# Altium footprint library dolphi_emblab.PcbLib: 128 footprints (part 7 of 8)
Each footprint in its own frame and in the unit in brackets; x right, y up, seen from the top. Pads: shape width x height; smd on the part's side, far side on the other; paste and mask are expansions set on the pad; w line width, h text height; cw(c..) or ccw(c..) is an arc to the next point about the centre after c.
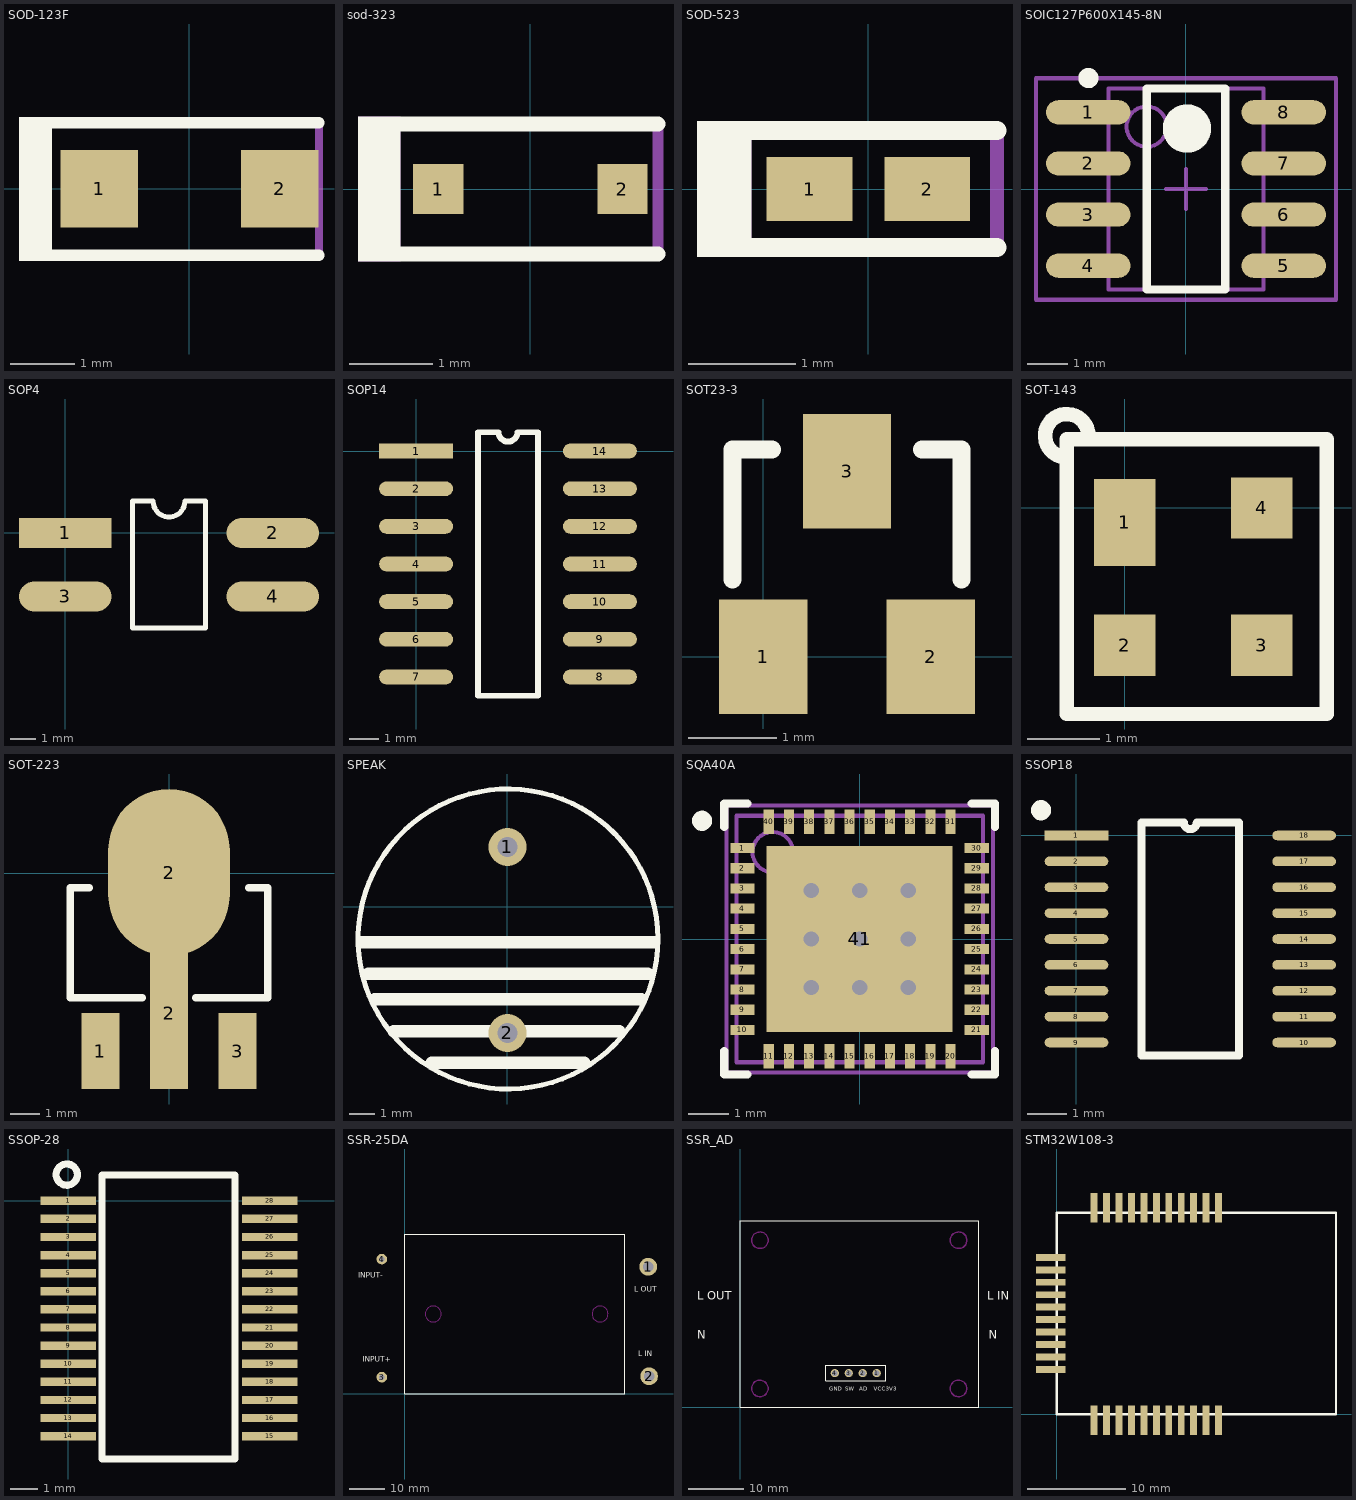
[diagram p6: the footprints below, top view; thin cyan lines are the x and y axes]

## SOD-123F [mm] "NXP recommended land pattern"
height 1.2
pads (2):
  rect 1.2x1.2 smd: 1(-1.4,0) 2(1.4,0)
Top Overlay:
  rectangle: -2.642,-1.119 -2.134,1.117
  lines w0.178: -2.311,-1.029 2.007,-1.029 ; -2.311,1.029 2.007,1.029
Mechanical 5:
  rectangle: -2.642,-1.119 -2.134,1.117
  lines w0.127: -2.311,-1.029 2.007,-1.029 2.007,1.029 -2.311,1.029
3D body: height 1.2, standoff 0, extent -1.8,-0.85 1.8,0.85

## sod-323 [mm] "NXP recommended land pattern"
height 1.1
pads (2):
  rect 0.6x0.6 smd paste-0.05: 1(-1.1,0) 2(1.1,0)
Top Overlay:
  rectangle: -2.057,-0.864 -1.549,0.864
  lines w0.178: -1.803,-0.775 0.1,-0.775 1.525,-0.775 ; -1.803,0.775 0.1,0.775 1.525,0.775
Mechanical 5:
  rectangle: -2.057,-0.864 -1.549,0.864
  lines w0.127: -1.803,-0.775 0.1,-0.775 1.525,-0.775 1.525,0.775 0.1,0.775 -1.803,0.775
  text ".Designator" at -1.4,-0.275 h0.76
3D body: height 1.1, standoff 0, extent -1.3,-0.675 1.3,0.675

## SOD-523 [mm] "NXP Semiconductor recommended land pattern, nominal STEP model"
height 0.7
pads (2):
  rect 0.8x0.6 smd: 1(-0.55,0) 2(0.55,0)
Top Overlay:
  rectangle: -1.6,-0.635 -1.092,0.635
  lines w0.178: -1.475,-0.546 0,-0.546 1.2,-0.546 ; -1.475,0.546 0,0.546 1.2,0.546
Mechanical 5:
  rectangle: -1.6,-0.635 -1.092,0.635
  lines w0.127: -1.475,-0.546 0,-0.546 1.2,-0.546 1.2,0.546 0,0.546 -1.475,0.546
3D body: height 0.72, standoff 0.02, extent -0.8,-0.399 0.8,0.399

## SOIC127P600X145-8N [mm] "SOIC, 8-Leads, Body 5.0x3.8mm (max), Pitch 1.27mm, IPC Medium Density"
height 1.45
pads (8):
  oval 2.1x0.6 smd: 1(-2.425,1.905) 2(-2.425,0.635) 3(-2.425,-0.635) 4(-2.425,-1.905) 5(2.425,-1.905) 6(2.425,-0.635) 7(2.425,0.635) 8(2.425,1.905)
Top Overlay:
  circle w0.25: c-2.425,2.755 r0.125
  circle w0.6: c0.025,1.5 r0.3
  lines w0.2: -0.975,-2.5 -0.975,2.5 0.975,2.5 0.975,-2.5 -0.975,-2.5
Mechanical 13:
  circle w0.1: c-0.975,1.55 r0.5
  lines w0.1: -1.925,-2.5 -1.925,2.5 1.925,2.5 1.925,-2.5 -1.925,-2.5
Mechanical 15:
  lines w0.1: -0.5,0 0.5,0 ; 0,-0.5 0,0.5 ; -3.725,-2.75 -3.725,2.75 3.725,2.75 3.725,-2.75 -3.725,-2.75
3D body: height 1.45, standoff 0.25, extent -1.925,-2.5 1.925,2.5

## SOP4 [mm]
pads (4):
  rect 3.7x1.2 smd: 1(0,0)
  oval 3.7x1.2 smd: 2(8.3,0) 3(0,-2.54) 4(8.3,-2.54)
Top Overlay:
  lines w0.2: 2.685,-3.81 5.615,-3.81 5.615,1.27 4.785,1.27 cw(c4.15,1.27) 3.515,1.27 2.685,1.27 2.685,-3.81

## SOP14 [mm]
pads (14):
  rect 2.5x0.5 smd: 1(0,0)
  oval 2.5x0.5 smd: 2(0,-1.27) 3(0,-2.54) 4(0,-3.81) 5(0,-5.08) 6(0,-6.35) 7(0,-7.62) 8(6.2,-7.62) 9(6.2,-6.35) 10(6.2,-5.08) 11(6.2,-3.81) 12(6.2,-2.54) 13(6.2,-1.27) 14(6.2,0)
Top Overlay:
  lines w0.2: 2.085,-8.255 2.085,0.635 2.782,0.635 ccw(c3.1,0.635) 3.417,0.635 4.115,0.635 4.115,-8.255 2.085,-8.255

## SOT23-3 [mm]
pads (3):
  rect 1x1.3 smd: 1(0,0) 2(1.9,0) 3(0.95,2.1)
Top Overlay:
  lines w0.203: -0.35,0.875 -0.35,2.35 0.1,2.35 ; 1.8,2.35 2.25,2.35 2.25,0.875

## SOT-143 [mm]
height 1.19
pads (4):
  rect 0.85x1.2 smd: 1(0,-0.2)
  rect 0.85x0.85 smd: 2(0,-1.9) 3(1.9,-1.9) 4(1.9,0)
Top Overlay:
  lines w0.2: -0.8,0.7 cw(c-0.8,1) -0.5,1 ; 0.64,0.95 1.425,0.95 ; -0.8,-2.85 -0.8,0.95 2.8,0.95 2.8,-2.85 -0.8,-2.85
3D body: height 1, standoff 0, extent -0.26,-2.41 2.16,0.51

## SOT-223 [mil]
height 270.08
pads (4):
  rect 50x100 smd: 1(-90.5,-234) 3(90.5,-234)
  rect 50x200 smd: 2(0,-184)
  oval 160x220 smd: 2(0,1)
Top Overlay:
  lines w10: -105,-19 -130,-19 -130,-164 -35,-164 ; 35,-164 130,-164 130,-19 105,-19

## SPEAK [mil]
height 62.99
pads (2):
  round 60 hole 31.5: 1(0,94.49) 2(0,-198.43)
Top Overlay:
  circle w7.87: c0.84,-50.42 r236.22
  lines w19.68: -229.16,-55.43 230.84,-55.43 ; -219.16,-105.43 220.84,-105.43 ; -209.16,-145.43 210.84,-145.43 ; -179.16,-195.43 175.84,-195.43 ; -119.16,-245.43 120.84,-245.43

## SQA40A [mm] "QFN, 40-Leads, Body 6x6mm, Pitch 0.5mm, NSC Recommended"
height 0.8
pads (41):
  rect 0.6x0.25 smd paste-0.125 mask+0.051: 1(-2.9,2.25) 2(-2.9,1.75) 3(-2.9,1.25) 4(-2.9,0.75) 5(-2.9,0.25) 6(-2.9,-0.25) 7(-2.9,-0.75) 8(-2.9,-1.25) 9(-2.9,-1.75) 10(-2.9,-2.25) 21(2.9,-2.25) 22(2.9,-1.75) 23(2.9,-1.25) 24(2.9,-0.75) 25(2.9,-0.25) 26(2.9,0.25) 27(2.9,0.75) 28(2.9,1.25) 29(2.9,1.75) 30(2.9,2.25)
  rect 0.25x0.6 smd paste-0.125 mask+0.051: 11(-2.25,-2.9) 12(-1.75,-2.9) 13(-1.25,-2.9) 14(-0.75,-2.9) 15(-0.25,-2.9) 16(0.25,-2.9) 17(0.75,-2.9) 18(1.25,-2.9) 19(1.75,-2.9) 20(2.25,-2.9) 31(2.25,2.9) 32(1.75,2.9) 33(1.25,2.9) 34(0.75,2.9) 35(0.25,2.9) 36(-0.25,2.9) 37(-0.75,2.9) 38(-1.25,2.9) 39(-1.75,2.9) 40(-2.25,2.9)
  rect 4.6x4.6 smd paste-2.3 mask+0.051: 41(0,0)
via 1.2,1.2 diameter 0.635 hole 0.381
via -1.2,1.2 diameter 0.635 hole 0.381
via 0,1.2 diameter 0.635 hole 0.381
via 1.2,-1.2 diameter 0.635 hole 0.381
via -1.2,-1.2 diameter 0.635 hole 0.381
via 0,-1.2 diameter 0.635 hole 0.381
via 0,0 diameter 0.635 hole 0.381
via -1.2,0 diameter 0.635 hole 0.381
via 1.2,0 diameter 0.635 hole 0.381
Top Overlay:
  circle w0.25: c-3.9,2.925 r0.125
  lines w0.2: -3.35,-2.775 -3.35,-3.35 -2.775,-3.35 ; -3.35,2.775 -3.35,3.35 -2.775,3.35 ; 2.775,-3.35 3.35,-3.35 3.35,-2.775 ; 2.775,3.35 3.35,3.35 3.35,2.775
Top Paste:
  region: 2.125,3.4 2.125,2.7 2.375,2.7 2.375,3.4
  region: 1.625,3.398 1.625,2.698 1.875,2.698 1.875,3.398
  region: 1.125,3.398 1.125,2.698 1.375,2.698 1.375,3.398
  region: 0.625,3.4 0.625,2.7 0.875,2.7 0.875,3.4
  region: 0.125,3.4 0.125,2.7 0.375,2.7 0.375,3.4
  region: -0.375,3.4 -0.375,2.7 -0.125,2.7 -0.125,3.4
  region: -0.873,3.4 -0.873,2.7 -0.623,2.7 -0.623,3.4
  region: -1.373,3.4 -1.373,2.7 -1.123,2.7 -1.123,3.4
  region: -1.875,3.4 -1.875,2.7 -1.625,2.7 -1.625,3.4
  region: -2.375,3.4 -2.375,2.7 -2.125,2.7 -2.125,3.4
  region: 3.4,-2.125 2.7,-2.125 2.7,-2.375 3.4,-2.375
  region: 3.4,-1.625 2.7,-1.625 2.7,-1.875 3.4,-1.875
  region: 3.4,-1.125 2.7,-1.125 2.7,-1.375 3.4,-1.375
  region: 3.4,-0.627 2.7,-0.627 2.7,-0.877 3.4,-0.877
  region: 3.4,-0.125 2.7,-0.125 2.7,-0.375 3.4,-0.375
  region: 3.4,0.375 2.7,0.375 2.7,0.125 3.4,0.125
  region: 3.4,0.875 2.7,0.875 2.7,0.625 3.4,0.625
  region: 3.4,1.375 2.7,1.375 2.7,1.125 3.4,1.125
  region: 3.398,1.875 2.698,1.875 2.698,1.625 3.398,1.625
  region: 3.4,2.375 2.7,2.375 2.7,2.125 3.4,2.125
  region: -2.125,-3.4 -2.125,-2.7 -2.375,-2.7 -2.375,-3.4
  region: -1.625,-3.4 -1.625,-2.7 -1.875,-2.7 -1.875,-3.4
  region: -1.125,-3.4 -1.125,-2.7 -1.375,-2.7 -1.375,-3.4
  region: -0.625,-3.4 -0.625,-2.7 -0.875,-2.7 -0.875,-3.4
  region: -0.125,-3.4 -0.125,-2.7 -0.375,-2.7 -0.375,-3.4
  region: 0.375,-3.4 0.375,-2.7 0.125,-2.7 0.125,-3.4
  region: 0.875,-3.4 0.875,-2.7 0.625,-2.7 0.625,-3.4
  region: 1.375,-3.4 1.375,-2.7 1.125,-2.7 1.125,-3.4
  region: 1.875,-3.4 1.875,-2.7 1.625,-2.7 1.625,-3.4
  region: 2.375,-3.4 2.375,-2.7 2.125,-2.7 2.125,-3.4
  rectangle: -3.4,-2.375 -2.7,-2.125
  rectangle: -3.4,-1.875 -2.7,-1.625
  rectangle: -3.4,-1.375 -2.7,-1.125
  rectangle: -3.4,-0.875 -2.7,-0.625
  rectangle: -3.4,-0.375 -2.7,-0.125
  rectangle: -3.4,0.125 -2.7,0.375
  rectangle: -3.4,0.625 -2.7,0.875
  rectangle: -3.4,1.125 -2.7,1.375
  rectangle: -3.4,1.625 -2.7,1.875
  rectangle: -3.4,2.125 -2.7,2.375
  rectangle: 0.1,-1.1 1.1,-0.1
  rectangle: 1.3,-2.3 2.3,-1.3
  rectangle: 1.3,-1.1 2.3,-0.1
  rectangle: 0.1,-2.3 1.1,-1.3
  region: -0.102,-0.1 -1.102,-0.1 -1.102,-1.1 -0.102,-1.1
  region: -1.3,-1.3 -2.3,-1.3 -2.3,-2.3 -1.3,-2.3
  region: -1.3,-0.1 -2.3,-0.1 -2.3,-1.1 -1.3,-1.1
  region: -0.1,-1.3 -1.1,-1.3 -1.1,-2.3 -0.1,-2.3
  region: -0.1,1.1 -1.1,1.1 -1.1,0.1 -0.1,0.1
  region: -1.3,2.3 -2.3,2.3 -2.3,1.3 -1.3,1.3
  region: -1.3,1.1 -2.3,1.1 -2.3,0.1 -1.3,0.1
  region: -0.1,2.3 -1.1,2.3 -1.1,1.3 -0.1,1.3
  rectangle: 0.1,1.3 1.1,2.3
  rectangle: 1.3,0.1 2.3,1.1
  rectangle: 1.3,1.3 2.3,2.3
  rectangle: 0.1,0.1 1.1,1.1
Mechanical 5:
  text ".Designator" at -1.524,-0.508 h1.02
Mechanical 13:
  circle w0.1: c-2.15,2.15 r0.5
  lines w0.1: -3.05,-3.05 -3.05,3.05 3.05,3.05 3.05,-3.05 -3.05,-3.05
Mechanical 15:
  lines w0.1: -0.5,0 0.5,0 ; 0,-0.5 0,0.5 ; -3.3,-3.3 -3.3,3.3 3.3,3.3 3.3,-3.3 -3.3,-3.3
3D body: height 0.8, standoff 0, extent -3.05,-3.05 3.05,3.05

## SSOP18 [mm]
pads (18):
  rect 1.6x0.24 smd: 1(0,0)
  oval 1.6x0.24 smd: 2(0,-0.65) 3(0,-1.3) 4(0,-1.95) 5(0,-2.6) 6(0,-3.25) 7(0,-3.9) 8(0,-4.55) 9(0,-5.2) 10(5.72,-5.2) 11(5.72,-4.55) 12(5.72,-3.9) 13(5.72,-3.25) 14(5.72,-2.6) 15(5.72,-1.95) 16(5.72,-1.3) 17(5.72,-0.65) 18(5.72,0)
Top Overlay:
  circle w0.254: c-0.889,0.635 r0.127
  lines w0.2: 1.635,-5.525 1.635,0.325 2.698,0.325 ccw(c2.86,0.325) 3.022,0.325 4.085,0.325 4.085,-5.525 1.635,-5.525

## SSOP-28 [mm]
height 6.86
pads (28):
  rect 2x0.3 smd: 1(0,0) 2(0,-0.65) 3(0,-1.3) 4(0,-1.95) 5(0,-2.6) 6(0,-3.25) 7(0,-3.9) 8(0,-4.55) 9(0,-5.2) 10(0,-5.85) 11(0,-6.5) 12(0,-7.15) 13(0,-7.8) 14(0,-8.45) 15(7.239,-8.45) 16(7.239,-7.8) 17(7.239,-7.15) 18(7.239,-6.5) 19(7.239,-5.85) 20(7.239,-5.2) 21(7.239,-4.55) 22(7.239,-3.9) 23(7.239,-3.25) 24(7.239,-2.6) 25(7.239,-1.95) 26(7.239,-1.3) 27(7.239,-0.65) 28(7.239,0)
Top Overlay:
  circle w0.254: c-0.051,0.94 r0.381
  lines w0.254: 1.219,-9.271 5.994,-9.271 5.994,0.929 1.219,0.929 1.219,-9.271

## SSR-25DA [mm] "FOTEK单相固态继电器"
pads (4):
  round 5 hole 3: 1(68.58,35.814) 2(68.834,4.953)
  round 3 hole 1.5: 3(-6.477,4.699) 4(-6.477,37.973)
Top Overlay:
  lines w0.127: 0,0 62,0 62,45 0,45 0,0
  text "INPUT+" at -11.938,9.017 h1.52
  text "INPUT-" at -13.208,32.766 h1.52
  text "L OUT" at 64.643,28.702 h1.52
  text "L IN" at 65.786,10.541 h1.52
Keep-Out Layer:
  circle w0.254: c8,22.5 r2.25
  circle w0.254: c55,22.5 r2.25

## SSR_AD [mm] "可控硅+电流采样（固态继电器）"
pads (4):
  round 1.5 hole 1: 1(24.765,6.223) 2(22.225,6.223) 3(19.685,6.223) 4(17.145,6.223)
Top Overlay:
  lines w0.127: 0,0 43.307,0 43.307,33.909 0,33.909 0,0 ; 15.494,4.826 26.416,4.826 26.416,7.62 15.494,7.62 15.494,4.826
  text "GND" at 16.129,3.048 h0.76
  text "SW" at 19.05,3.048 h0.76
  text "AD" at 21.548,3.048 h0.76
  text "VCC3V3" at 24.257,3.048 h0.76
  text "N" at -7.874,12.446 h1.52
  text "L OUT" at -7.874,19.558 h1.52
  text "N" at 45.085,12.446 h1.52
  text "L IN" at 44.831,19.558 h1.52
Keep-Out Layer:
  circle w0.254: c39.624,3.429 r1.5
  circle w0.254: c3.556,3.429 r1.5
  circle w0.254: c3.556,30.353 r1.5
  circle w0.254: c39.624,30.353 r1.5

## STM32W108-3 [mm]
height 6.86
pads (32):
  rect 0.7x3 smd: 1(16.51,21.074) 2(15.24,21.074) 3(13.97,21.074) 4(12.7,21.074) 5(11.43,21.074) 6(10.16,21.074) 7(8.89,21.074) 8(7.62,21.074) 9(6.35,21.074) 10(5.08,21.074) 11(3.81,21.074) 22(3.81,-0.627) 23(5.08,-0.627) 24(6.35,-0.627) 25(7.62,-0.627) 26(8.89,-0.627) 27(10.16,-0.627) 28(11.43,-0.627) 29(12.7,-0.627) 30(13.97,-0.627) 31(15.24,-0.627) 32(16.51,-0.627)
  rect 3x0.7 smd: 12(-0.627,16.002) 13(-0.627,14.732) 14(-0.627,13.462) 15(-0.627,12.192) 16(-0.627,10.922) 17(-0.627,9.652) 18(-0.627,8.382) 19(-0.627,7.112) 20(-0.627,5.842) 21(-0.627,4.572)
Top Overlay:
  lines w0.254: 0,0 28.5,0 ; 0,0.074 0,20.574 28.5,20.574 28.5,0.074